# EAGLE library part UG-2864HLBEG01 (library Domino)
0.96" OLED Display, 30 Pins
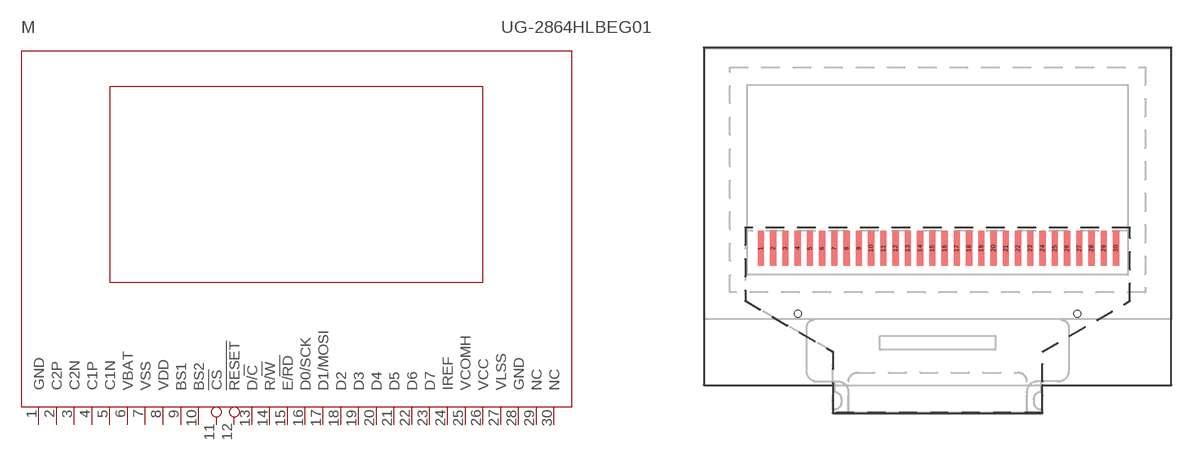
[diagram p50: symbol with the pads of UG-2864HLBEG01-FOLDED; footprint UG-2864HLBEG01-FOLDED]

Designator prefix M

## UG-2864HLBEG01  [UG-2864HLBEG01-FOLDED]
1  GND  pwr
2  C2P  pas
3  C2N  pas
4  C1P  pas
5  C1N  pas
6  VBAT  pwr
7  VSS  pwr
8  VDD  pwr
9  BS1  in
10  BS2  in
11  !CS  in
12  !RESET  in
13  D/!C  in
14  R/!W  in
15  E/!RD  in
16  D0/SCK  in
17  D1/MOSI  in
18  D2  in
19  D3  in
20  D4  in
21  D5  in
22  D6  in
23  D7  in
24  IREF  pas
25  VCOMH  pwr
26  VCC  pwr
27  VLSS  pwr
28  GND  pwr
29  NC  nc
30  NC  nc

## Footprint UG-2864HLBEG01-FOLDED (pad centres in mm)
Folding Type OLED Display Module 0.96" 128 x 64, Monochrome, COG Package, Folded
smd 0.35 x 2: 1 -10.1,-3.69; 2 -9.4,-3.69; 3 -8.7,-3.69; 4 -8,-3.69; 5 -7.3,-3.69; 6 -6.6,-3.69; 7 -5.9,-3.69; 8 -5.2,-3.69; 9 -4.5,-3.69; 10 -3.8,-3.69; 11 -3.1,-3.69; 12 -2.4,-3.69; 13 -1.7,-3.69; 14 -1,-3.69; 15 -0.3,-3.69; 16 0.4,-3.69; 17 1.1,-3.69; 18 1.8,-3.69; 19 2.5,-3.69; 20 3.2,-3.69; 21 3.9,-3.69; 22 4.6,-3.69; 23 5.3,-3.69; 24 6,-3.69; 25 6.7,-3.69; 26 7.4,-3.69; 27 8.1,-3.69; 28 8.8,-3.69; 29 9.5,-3.69; 30 10.2,-3.69
hole 0.4 at 8,-7.44
hole 0.4 at -8,-7.44